# Altium integrated library Altium Library v1.9.IntLib: 79 symbols
Pins are listed as number, name and electrical type; pins without a type are passive.

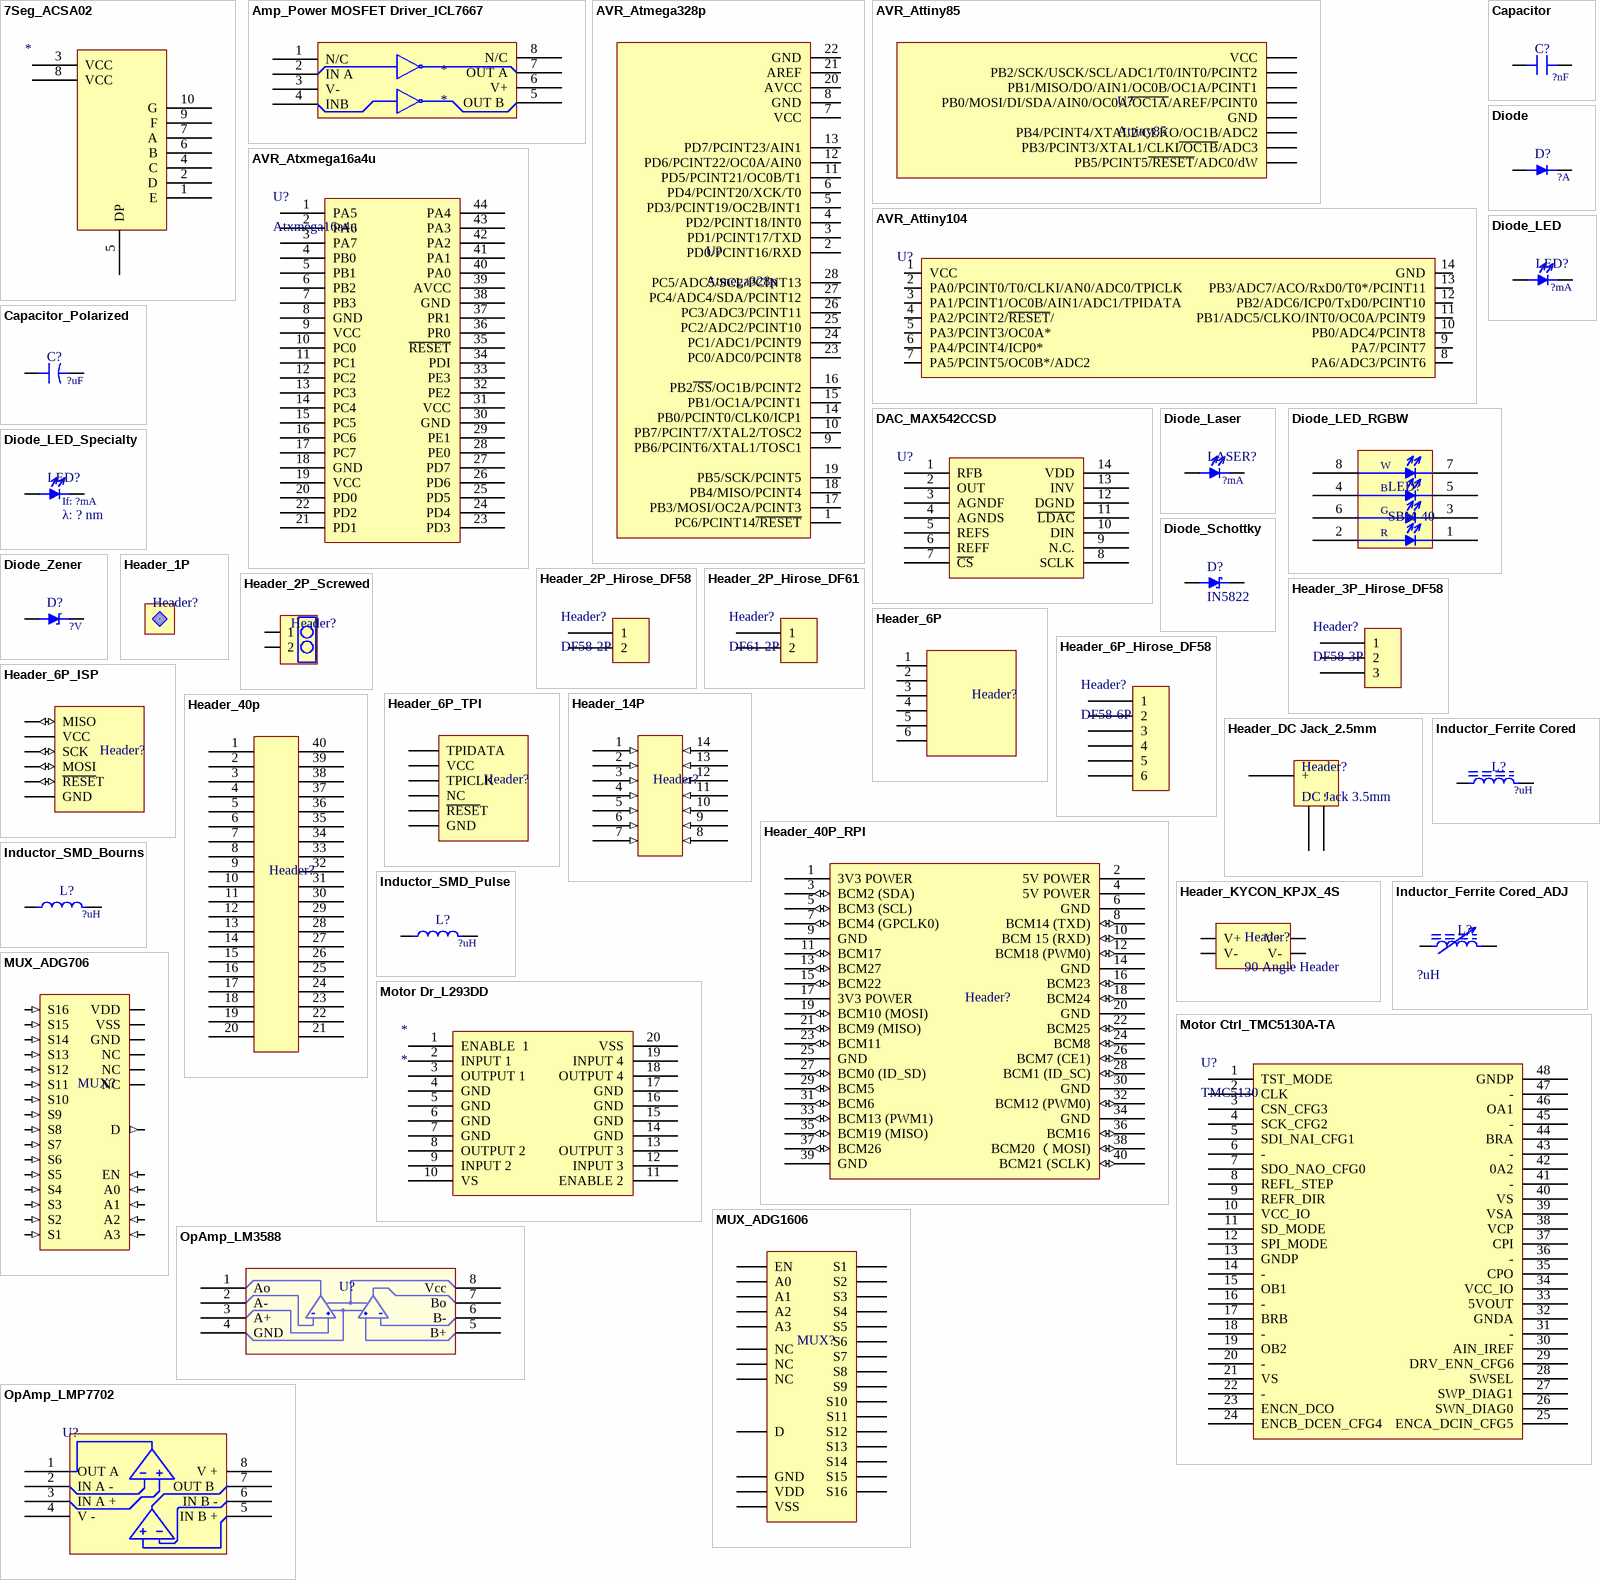
[diagram p0: symbols 7Seg_ACSA02 to OpAmp_LMP7702]

## 7Seg_ACSA02
designator *  (value not drawn)
footprint 7Seg-ACSA02
pins: 1 E, 2 D, 3 VCC, 4 C, 5 DP, 6 B, 7 A, 8 VCC, 9 F, 10 G

## Amp_Power MOSFET Driver_ICL7667
designator *
footprint SOIC127P600X175-8N (SOIC, 8-Leads, Body 4.90x3.90mm, Pitch 1.27mm, IPC Medium Density)
pins: 1 N/C, 2 IN A, 3 V-, 4 INB, 5 OUT B , 6 V+, 7 OUT A, 8 N/C

## AVR_Atmega328p
designator U?, comment Atmega328p
footprint DIP28-ATMEGA328-METRIC
pins: 1 PC6/PCINT14~{/R}~{E}~{S}~{E}~{T}, 2 PD0/PCINT16/RXD, 3 PD1/PCINT17/TXD, 4 PD2/PCINT18/INT0, 5 PD3/PCINT19/OC2B/INT1, 6 PD4/PCINT20/XCK/T0, 7 VCC, 8 GND, 9 PB6/PCINT6/XTAL1/TOSC1, 10 PB7/PCINT7/XTAL2/TOSC2, 11 PD5/PCINT21/OC0B/T1, 12 PD6/PCINT22/OC0A/AIN0, 13 PD7/PCINT23/AIN1, 14 PB0/PCINT0/CLK0/ICP1, 15 PB1/OC1A/PCINT1, 16 PB2~{/S}~{S}/OC1B/PCINT2, 17 PB3/MOSI/OC2A/PCINT3, 18 PB4/MISO/PCINT4, 19 PB5/SCK/PCINT5, 20 AVCC, 21 AREF, 22 GND, 23 PC0/ADC0/PCINT8, 24 PC1/ADC1/PCINT9, 25 PC2/ADC2/PCINT10, 26 PC3/ADC3/PCINT11, 27 PC4/ADC4/SDA/PCINT12, 28 PC5/ADC5/SCL/PCINT13

## AVR_Attiny85
designator U?, comment Attiny85
footprint DIP8-tiny
pins: 1 PB5/PCINT5~{/R}~{E}~{S}~{E}~{T}/ADC0/dW, 2 PB3/PCINT3/XTAL1/CLKI~{/O}~{C}~{1}~{B}/ADC3, 3 PB4/PCINT4/XTAL2/CLKO/OC1B/ADC2, 4 GND, 5 PB0/MOSI/DI/SDA/AIN0/OC0A~{/O}~{C}~{1}~{A}/AREF/PCINT0, 6 PB1/MISO/DO/AIN1/OC0B/OC1A/PCINT1, 7 PB2/SCK/USCK/SCL/ADC1/T0/INT0/PCINT2, 8 VCC

## AVR_Attiny104
designator U?, comment ATTINY104  (value not drawn)
footprint ATTINY104-14SOIC
pins: 1 VCC, 2 PA0/PCINT0/T0/CLKI/AN0/ADC0/TPICLK, 3 PA1/PCINT1/OC0B/AIN1/ADC1/TPIDATA, 4 PA2/PCINT2/~{RESET}/, 5 PA3/PCINT3/OC0A*, 6 PA4/PCINT4/ICP0*, 7 PA5/PCINT5/OC0B*/ADC2, 8 PA6/ADC3/PCINT6, 9 PA7/PCINT7, 10 PB0/ADC4/PCINT8, 11 PB1/ADC5/CLKO/INT0/OC0A/PCINT9, 12 PB2/ADC6/ICP0/TxD0/PCINT10, 13 PB3/ADC7/ACO/RxD0/T0*/PCINT11, 14 GND

## AVR_Atxmega16a4u
designator U?, comment Atxmega16a4u
footprint TQFP80P1200X1200X120-44N (TQFP, 44-Leads, Body 10.00x10.00mm, Pitch 0.80mm, IPC Medium Density)
pins: 1 PA5, 2 PA6, 3 PA7, 4 PB0, 5 PB1, 6 PB2, 7 PB3, 8 GND, 9 VCC, 10 PC0, 11 PC1, 12 PC2, 13 PC3, 14 PC4, 15 PC5, 16 PC6, 17 PC7, 18 GND, 19 VCC, 20 PD0, 21 PD1, 22 PD2, 23 PD3, 24 PD4, 25 PD5, 26 PD6, 27 PD7, 28 PE0, 29 PE1, 30 GND, 31 VCC, 32 PE2, 33 PE3, 34 PDI, 35 ~{RESET}, 36 PR0, 37 PR1, 38 GND, 39 AVCC, 40 PA0, 41 PA1, 42 PA2, 43 PA3, 44 PA4

## Capacitor
designator C?  Capacitance: ?nF
Rated Voltage: ?V; Temperature: ?C
footprint CAPACITOR_300mil
footprint 0603 cap
footprint 0805 Cap
footprint 1206 CAP
pins: 1, 2

## Capacitor_Polarized
designator C?  Capacitance: ?uF  (hidden comment: Capacitor_Polarized)
footprint Capacitor Polarized_L
footprint CAPACITOR POLARIZED_M
footprint Capacitor_D10
footprint CAPACITOR_D125
pins: 1, 2

## DAC_MAX542CCSD
designator U?, comment MAX542  (value not drawn)
16-bit DAC
footprint SOIC127P600X175-14N (SOIC, 14-Leads, Body 9.90x3.90mm, Pitch 1.27mm, IPC Medium Density)
pins: 1 RFB, 2 OUT, 3 AGNDF, 4 AGNDS, 5 REFS, 6 REFF, 7 ~{CS}, 8 SCLK, 9 N.C., 10 DIN, 11 ~{LDAC}, 12 DGND, 13 INV, 14 VDD

## Diode
designator D?  Rated Current: ?A  (hidden comment: *)
footprint Diode_Normal
pins: 1, 2

## Diode_Laser
designator LASER?  Rated Current: ?mA
footprint LED_Laser Mount
pins: 1, 2

## Diode_LED
designator LED?  Rated Current: ?mA
footprint LED_SAMSUNG
footprint LED_CREE
pins: 1, 2

## Diode_LED_RGBW
designator LED?, comment SBM-40
pins: 1 RK, 2 RA, 3 BK, 4 BA, 5 GK, 6 GA, 7 WK, 8 WA
text: W; B; G; R

## Diode_LED_Specialty
designator LED?  If: ?mA  λ: ? nm
footprint LED_SST-10-UV
footprint LED_SST-10-IR
pins: 1, 2

## Diode_Schottky
designator D?, comment IN5822
Maximum Current: ?A
footprint Diode_Fat
footprint Schottky Diode SMD FAIRCHILD (Molded Diode, 2-Leads, Body 4.38x2.73mm, IPC Medium Density)
footprint Schottky Diode SOD323 CENTRAL SEMI (SODFL, 2-Leads, Body 1.25x2.50mm, IPC Medium Density)
pins: 1, 2

## Diode_Zener
designator D?  Zener Voltage: ?V
footprint Diode_TINY
footprint SMD ZENER DIODE DIODES INC
pins: 1, 2

## Header_1P
designator Header?  (value not drawn)
footprint Header_1P
pins: 1

## Header_2P_Hirose_DF58
designator Header?, comment DF58-2P
footprint HRS_DF58_2P
pins: 1, 2

## Header_2P_Hirose_DF61
designator Header?, comment DF61-2P
footprint HRS_DF61_2P
pins: 1, 2

## Header_2P_Screwed
designator Header?
footprint Terminal Block_2P
pins: 1, 2

## Header_3P_Hirose_DF58
designator Header?, comment DF58-3P
footprint HRS_DF58_3P
pins: 1, 2, 3

## Header_6P
designator Header?
footprint Header_ISP_6P
footprint Header_ISP_6P_SMD
pins: 1, 2 (power), 3, 4, 5, 6 (power)

## Header_6P_Hirose_DF58
designator Header?, comment DF58-6P
footprint HRS_DF58_6P
pins: 1, 2, 3, 4, 5, 6

## Header_6P_ISP
designator Header?
footprint Header_ISP_6P
footprint Header_ISP_6P_SMD
pins: 1 MISO (io), 2 VCC (power), 3 SCK (io), 4 MOSI (io), 5 ~{RESE}T (io), 6 GND (power)

## Header_6P_TPI
designator Header?
For Attiny family
footprint Header_ISP_6P
footprint Header_ISP_6P_SMD
pins: 1 TPIDATA, 2 VCC (power), 3 TPICLK, 4 NC, 5 ~{RESE}T, 6 GND (power)

## Header_14P
designator Header?
footprint Header_14_100mil
pins: 1 (in), 2 (in), 3 (in), 4 (in), 5 (in), 6 (in), 7 (in), 8 (in), 9 (in), 10 (in), 11 (in), 12 (in), 13 (in), 14 (in)

## Header_40p
designator Header?  (value not drawn)
footprint Header_40P
pins: 1, 2, 3, 4, 5, 6, 7, 8, 9, 10, 11, 12, 13, 14, 15, 16, 17, 18, 19, 20, 21, 22, 23, 24, 25, 26, 27, 28, 29, 30, 31, 32, 33, 34, 35, 36, 37, 38, 39, 40

## Header_40P_RPI
designator Header?
footprint Header_40P _Staggered
pins: 1 3V3 POWER (power), 2 5V POWER (power), 3 BCM2 (SDA) (io), 4 5V POWER (power), 5 BCM3 (SCL) (io), 6 GND (power), 7 BCM4 (GPCLK0) (io), 8 BCM14 (TXD) (io), 9 GND (power), 10 BCM 15 (RXD) (io), 11 BCM17 (io), 12 BCM18 (PWM0) (io), 13 BCM27 (io), 14 GND (power), 15 BCM22 (io), 16 BCM23 (io), 17 3V3 POWER (power), 18 BCM24 (io), 19 BCM10 (MOSI) (io), 20 GND (power), 21 BCM9 (MISO) (io), 22 BCM25 (io), 23 BCM11 (io), 24 BCM8 (io), 25 GND (power), 26 BCM7 (CE1) (io), 27 BCM0 (ID_SD) (io), 28 BCM1 (ID_SC) (io), 29 BCM5 (io), 30 GND (power), 31 BCM6 (io), 32 BCM12 (PWM0) (io), 33 BCM13 (PWM1) (io), 34 GND (power), 35 BCM19 (MISO) (io), 36 BCM16 (io), 37 BCM26 (io), 38 BCM20 （MOSI) (io), 39 GND (power), 40 BCM21 (SCLK) (io)

## Header_DC Jack_2.5mm
designator Header?, comment DC Jack 3.5mm
footprint Header_3.5mm Jack
pins: 1 + (power), 2 -, 3 -

## Header_KYCON_KPJX_4S
designator Header?, comment 90 Angle Header
footprint Header_KYCON_KPJS_4S
pins: 1 V+, 2 V-, 3 V-, 4 V+

## Inductor_Ferrite Cored
designator L?  Inductance: ?uH
footprint Inductor_Small
footprint Inductor_D860
footprint SMD_INDUCTOR_SLF6028 (Precision Wire Wound Inductor, 2-Leads, Body 6.00x6.00mm, IPC Medium Density)
pins: 1, 2

## Inductor_Ferrite Cored_ADJ
designator L?  Inductance Range: ?uH  (hidden comment: Inductor_Ferrite Cored_ADJ)
footprint SOP6_ADJ Inductor
pins: 1, 2

## Inductor_SMD_Bourns
designator L?  Inductance: ?uH
footprint Inductor_SMD
pins: 1, 2

## Inductor_SMD_Pulse
designator L?  Inductance: ?uH
100 uH +/- 20% 3.5A unshielded 405 mohm max
footprint SMD_INDUCTOR_12.8X12.8X7mm
pins: 1, 2

## Motor Ctrl_TMC5130A-TA
designator U?, comment TMC5130
footprint TSQFP50P900X900X120_HS-49N (TSQFP, 48-Leads, Body 7.00x7.00mm, Pitch 0.50mm, Thermal Pad 5.10x5.10mm, IPC Medium Density)
pins: 1 TST_MODE, 2 CLK, 3 CSN_CFG3, 4 SCK_CFG2, 5 SDI_NAI_CFG1, 6 -, 7 SDO_NAO_CFG0, 8 REFL_STEP, 9 REFR_DIR, 10 VCC_IO, 11 SD_MODE, 12 SPI_MODE, 13 GNDP, 14 -, 15 OB1, 16 -, 17 BRB, 18 -, 19 OB2, 20 -, 21 VS, 22 -, 23 ENCN_DCO, 24 ENCB_DCEN_CFG4, 25 ENCA_DCIN_CFG5, 26 SWN_DIAG0, 27 SWP_DIAG1, 28 SWSEL, 29 DRV_ENN_CFG6, 30 AIN_IREF, 31 -, 32 GNDA, 33 5VOUT, 34 VCC_IO, 35 CPO, 36 -, 37 CPI, 38 VCP, 39 VSA, 40 VS, 41 -, 42 0A2, 43 -, 44 BRA, 45 -, 46 OA1, 47 -, 48 GNDP

## Motor Dr_L293DD
designator *
footprint SOIC127P600-8N
pins: 1 ENABLE  1, 2 INPUT 1, 3 OUTPUT 1, 4 GND, 5 GND, 6 GND, 7 GND, 8 OUTPUT 2, 9 INPUT 2, 10 VS, 11 ENABLE 2, 12 INPUT 3, 13 OUTPUT 3, 14 GND, 15 GND, 16 GND, 17 GND, 18 OUTPUT 4, 19 INPUT 4, 20 VSS

## MUX_ADG706
designator MUX?
footprint TSOP65P640X120-28N (TSOP, 28-Leads, Body 9.70x4.40mm, Pitch 0.65mm, IPC Medium Density)
pins: 1 VDD (power), 2 NC, 3 NC, 4 S16 (in), 5 S15 (in), 6 S14 (in), 7 S13 (in), 8 S12 (in), 9 S11 (in), 10 S10 (in), 11 S9 (in), 12 GND (power), 13 NC, 14 A3 (in), 15 A2 (in), 16 A1 (in), 17 A0 (in), 18 EN (in), 19 S1 (in), 20 S2 (in), 21 S3 (in), 22 S4 (in), 23 S5 (in), 24 S6 (in), 25 S7 (in), 26 S8 (in), 27 VSS (power), 28 D (out)

## MUX_ADG1606
designator MUX?
pins: 1 VDD (power) "Most Positive Power Supply Potential.", 2 NC "No Connect.", 3 NC "No Connect.", 4 S16 "Source Terminal 16. This pin can be an input or an output.", 5 S15 "Source Terminal 15. This pin can be an input or an output.", 6 S14 "Source Terminal 14. This pin can be an input or an output.", 7 S13 "Source Terminal 13. This pin can be an input or an output.", 8 S12 "Source Terminal 12. This pin can be an input or an output.", 9 S11 "Source Terminal 11. This pin can be an input or an output.", 10 S10 "Source Terminal 10. This pin can be an input or an output.", 11 S9 "Source Terminal 9. This pin can be an input or an output.", 12 GND "Ground (0 V) Reference.", 13 NC "No Connect.", 14 A3 "Logic Control Input.", 15 A2 "Logic Control Input.", 16 A1 "Logic Control Input.", 17 A0 "Logic Control Input.", 18 EN "Active High Digital Input. When this pin is low, the device is disabled and all switches are turned off. When this pin is high, the Ax logic inputs determine which switch is turned on.", 19 S1 "Source Terminal 1. This pin can be an input or an output.", 20 S2 "Source Terminal 2. This pin can be an input or an output.", 21 S3 "Source Terminal 3. This pin can be an input or an output.", 22 S4 "Source Terminal 4. This pin can be an input or an output.", 23 S5 "Source Terminal 5. This pin can be an input or an output.", 24 S6 "Source Terminal 6. This pin can be an input or an output.", 25 S7 "Source Terminal 7. This pin can be an input or an output.", 26 S8 "Source Terminal 8. This pin can be an input or an output.", 27 VSS "Most Negative Power Supply Potential. In single-supply applications, this pin can be connected to ground.", 28 D "Drain Terminal. This pin can be an input or an output."

## OpAmp_LM3588
designator U?  (value not drawn)
footprint DIP8-tiny
pins: 1 Ao, 2 A-, 3 A+, 4 GND, 5 B+, 6 B-, 7 Bo, 8 Vcc

## OpAmp_LMP7702
designator U?, comment LMP7702  (value not drawn)
footprint TSOP65P490X110-8N (TSOP, 8-Leads, Body 3.00x3.00mm, Pitch 0.65mm, IPC Medium Density)
pins: 1 OUT A, 2 IN A -, 3 IN A +, 4 V - , 5 IN B +, 6 IN B -, 7 OUT B , 8 V +

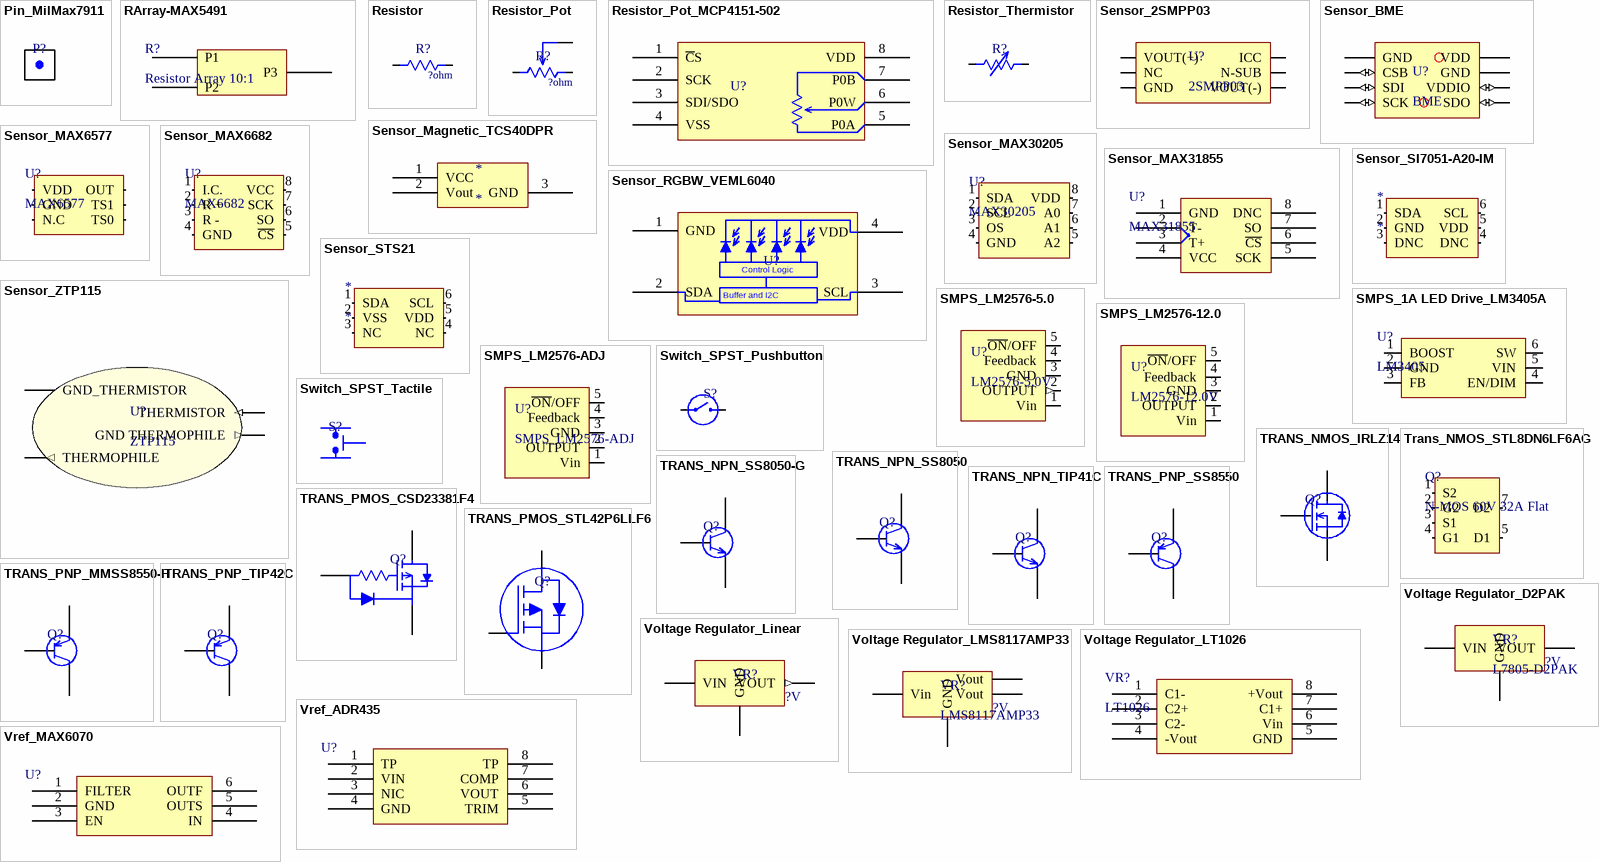
[diagram p1: symbols Pin_MilMax7911 to Vref_MAX6070]

## Pin_MilMax7911
designator P?
footprint PIN_7911
pins: 1 PIN? "Mill-max 7911-0-15-20-86-14-11-0"

## RArray-MAX5491
designator R?, comment Resistor Array 10:1
footprint SOT95P237X112-3N (SOT23, 3-Leads, Body 2.92x2.37mm, Pitch 0.95mm, IPC Medium Density)
pins: 1 P1, 2 P2, 3 P3

## Resistor
designator R?  Resistance: ?ohm
footprint Resistor_1W
footprint RESISTOR_0402
footprint 1206 Resistor
footprint 0805 Resistor (Chip Resistor, 2-Leads, Body 2.00x1.25mm, IPC Medium Density)
footprint RESISTOR_CSRN2512 (Chip Resistor, 2-Leads, Body 6.35x3.15mm, IPC Medium Density)
footprint Resistor2010
pins: 1, 2

## Resistor_Pot
designator R?  Resistance: ?ohm  (hidden comment: *)
footprint Potentiometer_20T
footprint TRIMPOT TC33X-2
pins: 1, 2, 3

## Resistor_Pot_MCP4151-502
designator U?
footprint DIP8-tiny
pins: 1 ~{C}S, 2 SCK, 3 SDI/SDO, 4 VSS, 5 P0A, 6 P0W, 7 P0B, 8 VDD (power)

## Resistor_Thermistor
designator R?  (value not drawn)
R25: ?kohm; B: ?K
pins: 1, 2

## Sensor_2SMPP03
designator U?, comment 2SMPP03
footprint 2SMPP03
pins: 1 VOUT(+), 2 NC, 3 GND, 4 VOUT(-), 5 N-SUB, 6 ICC

## Sensor_BME
designator U?, comment BME
footprint SOP8_BME680
footprint SOP8_BME280
pins: 1 GND (power), 2 CSB (io), 3 SDI (io), 4 SCK (io), 5 SDO (io), 6 VDDIO (io), 7 GND (power), 8 VDD (power)

## Sensor_Magnetic_TCS40DPR
designator *
footprint SON3-P-0203-1.90S (SOT23, 3-Leads, Body 2.90x2.40mm, Pitch 0.95mm, IPC Medium Density)
pins: 1 VCC, 2 Vout, 3 GND

## Sensor_MAX6577
designator U?, comment MAX6577
Temperature sensor with frequency output; ComponentLink1Description: Datasheet; ComponentLink1URL: https://datasheets.maximintegrated.com/en/ds/MAX6576-MAX6577.pdf
footprint MAX6682 - SOT32 6P (SOT23, 6-Leads, Body 2.90x2.80mm, Pitch 0.95mm, IPC Medium Density)
pins: 1 VDD, 2 GND, 3 N.C, 4 TS0, 5 TS1, 6 OUT

## Sensor_MAX6682
designator U?, comment MAX6682
Thermistor Interface; ComponentLink1Description: Datasheet; ComponentLink1URL: https://datasheets.maximintegrated.com/en/ds/MAX6682.pdf
footprint MAX6682 uMAX
pins: 1 I.C., 2 R +, 3 R -, 4 GND, 5 ~{CS}, 6 SO, 7 SCK, 8 VCC

## Sensor_MAX30205
designator U?, comment MAX30205
Human Body Temperature Sensor; ComponentLink1Description: Datasheet; ComponentLink1URL: https://datasheets.maximintegrated.com/en/ds/MAX30205.pdf
footprint MAX30205 - TQFN8
pins: 1 SDA, 2 SCL, 3 OS, 4 GND, 5 A2, 6 A1, 7 A0, 8 VDD

## Sensor_MAX31855
designator U?, comment MAX31855
footprint SOIC-8 (SOIC, 8-Leads, Body 4.90x3.90mm, Pitch 1.27mm, IPC Medium Density)
pins: 1 GND, 2 T-, 3 T+, 4 VCC, 5 SCK, 6 ~{CS}, 7 SO, 8 DNC

## Sensor_RGBW_VEML6040
designator U?
footprint SON123 (SON, 8-Leads, Body 4.48x5.55mm, Pitch 1.23mm, Thermal Pad 4.43x3.25mm, IPC Medium Density)
pins: 1 GND, 2 SDA, 3 SCL, 4 VDD
text: Control Logic; Buffer and I2C Interface

## Sensor_SI7051-A20-IM
designator *
ComponentLink1Description: Datasheet; ComponentLink1URL: https://www.silabs.com/documents/public/data-sheets/Si7050-1-3-4-5-A20.pdf
footprint SON100P300X80_HS-7N (SON, 6-Leads, Body 3.00x3.00mm, Pitch 1.00mm, Thermal Pad 2.40x1.50mm, IPC Medium Density)
pins: 1 SDA, 2 GND, 3 DNC, 4 DNC, 5 VDD, 6 SCL

## Sensor_STS21
designator *
ComponentLink1Description: Datasheet; ComponentLink1URL: https://www.sensirion.com/fileadmin/user_upload/customers/sensirion/Dokumente/3_Temperature_Sensors/Sensirion_Temperature_Sensors_STS21_Datasheet_V2.pdf
footprint STS21-DNF6 (SON, 6-Leads, Body 3.00x3.00mm, Pitch 1.00mm, Thermal Pad 2.40x1.50mm, IPC Medium Density)
pins: 1 SDA, 2 VSS, 3 NC, 4 NC, 5 VDD, 6 SCL

## Sensor_ZTP115
designator U?, comment ZTP115
footprint TO-5-ZTP
pins: 1 GND_THERMISTOR (power), 2 THERMOPHILE (out), 3 GND THERMOPHILE (out), 4 THERMISTOR (in)

## SMPS_1A LED Drive_LM3405A
designator U?, comment LM3405
1A Constant Current Buck LED Driver w/ internal Compensation; ComponentLink1Description: Datasheet; ComponentLink1URL: http://www.ti.com/lit/ds/symlink/lm3405a.pdf
footprint LM3405A SOT23-6
pins: 1 BOOST, 2 GND, 3 FB, 4 EN/DIM, 5 VIN, 6 SW

## SMPS_LM2576-5.0
designator U?, comment LM2576-5.0V
IC REG BUCK 5.0V 3A
footprint TO220-5-STAGGERED
footprint TO220-5-STAGGERED_JACKETED
footprint DPAK170P1435X465-6N (D2-PAK, 6-Pads, Body 7.55x8.57mm (max), IPC Medium Density)
pins: 1 Vin (power), 2 OUTPUT (out), 3 GND (power), 4 Feedback, 5 ~{ON}/OFF

## SMPS_LM2576-12.0
designator U?, comment LM2576-12.0V
IC REG BUCK 12.0V 3A
footprint TO220-5-STAGGERED
footprint TO220-5-STAGGERED_JACKETED
footprint DPAK170P1435X465-6N (D2-PAK, 6-Pads, Body 7.55x8.57mm (max), IPC Medium Density)
pins: 1 Vin, 2 OUTPUT, 3 GND, 4 Feedback, 5 ~{ON}/OFF

## SMPS_LM2576-ADJ
designator U?
IC REG BUCK ADJ 3A
footprint TO220-5-STAGGERED
footprint TO220-5-STAGGERED_JACKETED
pins: 1 Vin, 2 OUTPUT, 3 GND, 4 Feedback, 5 ~{ON}/OFF

## Switch_SPST_Pushbutton
designator S?  (value not drawn)
footprint SWITCH_SPST
pins: 1, 2

## Switch_SPST_Tactile
designator S?  (value not drawn)
ComponentLink1Description: Datasheet; ComponentLink1URL: https://www.mouser.com/ds/2/140/TL3315-345930.pdf
footprint TACTILE SWITCH 2
pins: 1, 2, 3, 4

## TRANS_NMOS_IRLZ14
designator Q?
MOSFET N-CH 60V 10A TO-220AB; Manufacturer: Vishay Siliconix
footprint TO220-GDS
pins: 1 G, 2 D, 3 S
2 alternate drawings of the same symbol

## Trans_NMOS_STL8DN6LF6AG
designator Q?, comment N-MOS 60V 32A Flat
ComponentLink1Description: Datasheet; ComponentLink1URL: http://www.st.com/content/ccc/resource/technical/document/datasheet/cc/b3/44/36/72/94/4c/91/DM00208902.pdf/files/DM00208902.pdf/jcr:content/translations/en.DM00208902.pdf
footprint STL8DN6LF6AG_DUAL ISLAND
pins: 1 S2, 2 G2, 3 S1, 4 G1, 5 D1, 7 D2

## TRANS_NPN_SS8050
designator Q?, comment NPN  (value not drawn)
TRANS NPN 1.5A 40V
footprint TO-92-EBC
pins: 1 E, 2 B, 3 C

## TRANS_NPN_SS8050-G
designator Q?, comment NPN  (value not drawn)
TRANS NPN 1.5A 40V
footprint NPN8050G-SOT23 (SOT23, 3-Leads, Body 2.90x2.40mm, Pitch 0.95mm, IPC Medium Density)
pins: 1 B, 2 E, 3 C

## TRANS_NPN_TIP41C
designator Q?, comment NPN  (value not drawn)
Bipolar (BJT) Transistor NPN 100V 6A 3MHz 2W
footprint TO220-123
footprint TO220-123 - Jacketed
pins: 1 B, 2 C, 3 E

## TRANS_PMOS_CSD23381F4
designator Q?
P-Channel 12V 2.3A (Ta) 500mW (Ta) Surface Mount 3-PICOSTAR; Manufacturer: Vishay Siliconix
footprint DFN65P100X35-3N (DFN, 3-Leads, Body 0.60x1.00mm, Pitch 0.65mm, IPC Medium Density)
pins: 1 G, 2 D, 3 S
2 alternate drawings of the same symbol

## TRANS_PMOS_STL42P6LLF6
designator Q?
P-channel -60 V, 23 mΩ typ., -42 A STripFET™ F6; Manufacturer: Vishay Siliconix
footprint STL42P6LLF6
pins: 1 S, 4 S, 5 D
2 alternate drawings of the same symbol

## TRANS_PNP_MMSS8550-H
designator Q?, comment PNP  (value not drawn)
TRANS PNP 25V 1.5A
footprint NPN8050G-SOT23 (SOT23, 3-Leads, Body 2.90x2.40mm, Pitch 0.95mm, IPC Medium Density)
pins: 1 B, 2 E, 3 C

## TRANS_PNP_SS8550
designator Q?, comment PNP  (value not drawn)
TRANS PNP 25V 1.5A
footprint TO-92-EBC
pins: 1 E, 2 B, 3 C

## TRANS_PNP_TIP42C
designator Q?, comment PNP  (value not drawn)
Bipolar (BJT) Transistor PNP 100V 6A 3MHz 2W
footprint TO220-123
pins: 1 B, 2 C, 3 E

## Voltage Regulator_D2PAK
designator VR?, comment L7805-D2PAK  Output Voltage: ?V
footprint DPAK254P1542X460-3N (D2-PAK, 3-Pads, Body 7.78x8.56mm (max), IPC Medium Density)
pins: 1 VIN, 3 VOUT, 4 GND

## Voltage Regulator_Linear
designator VR?  Output Voltage: ?V  (hidden comment: *)
footprint TO220-123
pins: 1 VIN (power), 2 GND (power), 3 VOUT (out)

## Voltage Regulator_LMS8117AMP33
designator VR?, comment LMS8117AMP33  Output Voltage: ?V
footprint SOT230P700X170-4N (SOT223, 4-Leads, Body 6.50x7.00mm (avg), Pitch 2.30mm, IPC Medium Density)
pins: 1 GND, 2 Vout, 3 Vin, 4 Vout

## Voltage Regulator_LT1026
designator VR?, comment LT1026
footprint SOIC-8 (SOIC, 8-Leads, Body 4.90x3.90mm, Pitch 1.27mm, IPC Medium Density)
pins: 1 C1-, 2 C2+, 3 C2-, 4 -Vout, 5 GND, 6 Vin, 7 C1+, 8 +Vout

## Vref_ADR435
designator U?, comment ADR435 - 5V  (value not drawn)
footprint MSOP-8 (TSOP, 8-Leads, Body 3.00x3.00mm, Pitch 0.65mm, IPC Medium Density)
pins: 1 TP, 2 VIN, 3 NIC, 4 GND, 5 TRIM, 6 VOUT, 7 COMP, 8 TP

## Vref_MAX6070
designator U?, comment MAX6070 - 2.5V  (value not drawn)
footprint SOT95P280X145-6N (SOT23, 6-Leads, Body 2.90x2.80mm, Pitch 0.95mm, IPC Medium Density)
pins: 1 FILTER, 2 GND, 3 EN, 4 IN, 5 OUTS, 6 OUTF